# EAGLE library part ADUM261N (library Public)
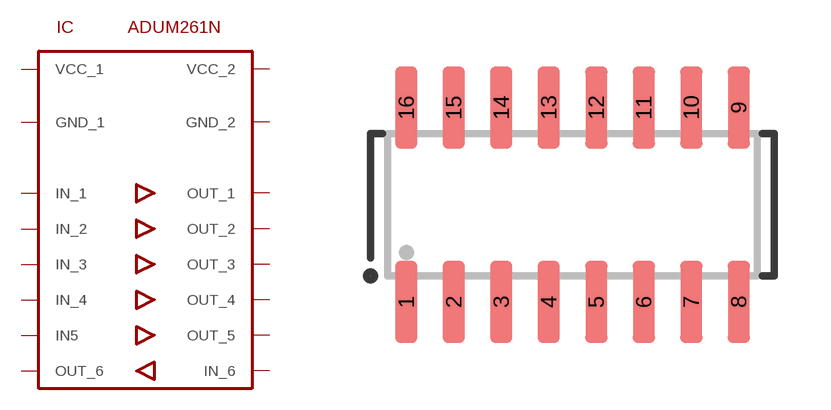
[diagram p21: symbol with the pads of SO16; footprint SO16]

Designator prefix IC

## ADUM261N  [SO16]
1  VCC_1
2  IN_1
3  IN_2
4  IN_3
5  IN_4
6  IN5
7  OUT_6
8  GND_1
9  GND_2
10  IN_6
11  OUT_5
12  OUT_4
13  OUT_3
14  OUT_2
15  OUT_1
16  VCC_2

## Footprint SO16 (pad centres in mm)
smd 0.6 x 2.2: 1 -4.445,-2.6; 2 -3.175,-2.6; 3 -1.905,-2.6; 4 -0.635,-2.6; 5 0.635,-2.6; 6 1.905,-2.6; 7 3.175,-2.6; 8 4.445,-2.6; 9 4.445,2.6; 10 3.175,2.6; 11 1.905,2.6; 12 0.635,2.6; 13 -0.635,2.6; 14 -1.905,2.6; 15 -3.175,2.6; 16 -4.445,2.6